# EAGLE library part CIRCUITCO_TLV320AIC3104 (library TLV320AIC3107_old)
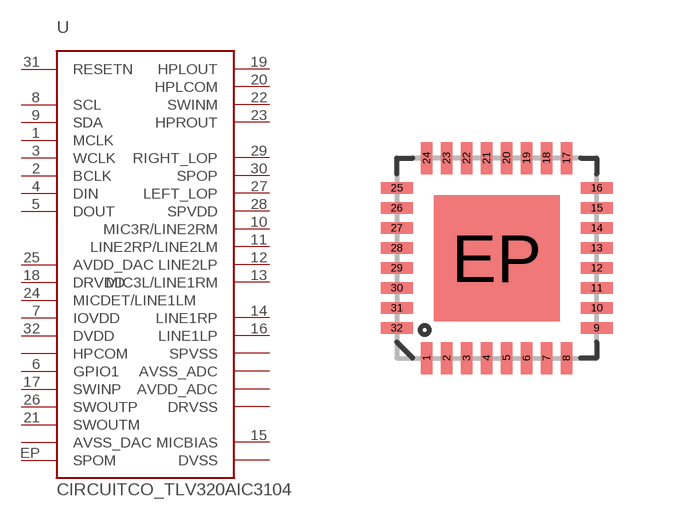
[diagram p0: symbol with the pads of CIRCUITCO_QFN-32; footprint CIRCUITCO_QFN-32]

Designator prefix -

## CIRCUITCO_TLV320AIC3104  [CIRCUITCO_QFN-32]
1  MCLK
2  BCLK
3  WCLK
4  DIN
5  DOUT
6  GPIO1
7  IOVDD
8  SCL
9  SDA
10  MIC3R/LINE2RM
11  LINE2RP/LINE2LM
12  LINE2LP
13  MIC3L/LINE1RM
14  LINE1RP
15  MICBIAS
16  LINE1LP
17  SWINP
18  DRVDD
19  HPLOUT
20  HPLCOM
21  SWOUTM
22  SWINM
23  HPROUT
24  MICDET/LINE1LM
25  AVDD_DAC
26  SWOUTP
27  LEFT_LOP
28  SPVDD
29  RIGHT_LOP
30  SPOP
31  RESETN
32  DVDD
EP  SPOM

## CIRCUITCO_TLV320AIC3104TLV320AIC3107  [CIRCUITCO_QFN-32]

## Footprint CIRCUITCO_QFN-32 (pad centres in mm)
smd 0.285 x 0.8: 1 -1.75,-2.5; 2 -1.25,-2.5; 3 -0.75,-2.5; 4 -0.25,-2.5; 5 0.25,-2.5; 6 0.75,-2.5; 7 1.25,-2.5; 8 1.75,-2.5; 17 1.75,2.5; 18 1.25,2.5; 19 0.75,2.5; 20 0.25,2.5; 21 -0.25,2.5; 22 -0.75,2.5; 23 -1.25,2.5; 24 -1.75,2.5
smd 0.8 x 0.285: 9 2.5,-1.75; 10 2.5,-1.25; 11 2.5,-0.75; 12 2.5,-0.25; 13 2.5,0.25; 14 2.5,0.75; 15 2.5,1.25; 16 2.5,1.75; 25 -2.5,1.75; 26 -2.5,1.25; 27 -2.5,0.75; 28 -2.5,0.25; 29 -2.5,-0.25; 30 -2.5,-0.75; 31 -2.5,-1.25; 32 -2.5,-1.75
smd 3.15 x 3.15: EP 0,0